# Altium footprint library Custom.PcbLib: 66 footprints (part 3 of 5)
Each footprint in its own frame and in the unit in brackets; x right, y up, seen from the top. Pads: shape width x height; smd on the part's side, far side on the other; paste and mask are expansions set on the pad; w line width, h text height; cw(c..) or ccw(c..) is an arc to the next point about the centre after c.
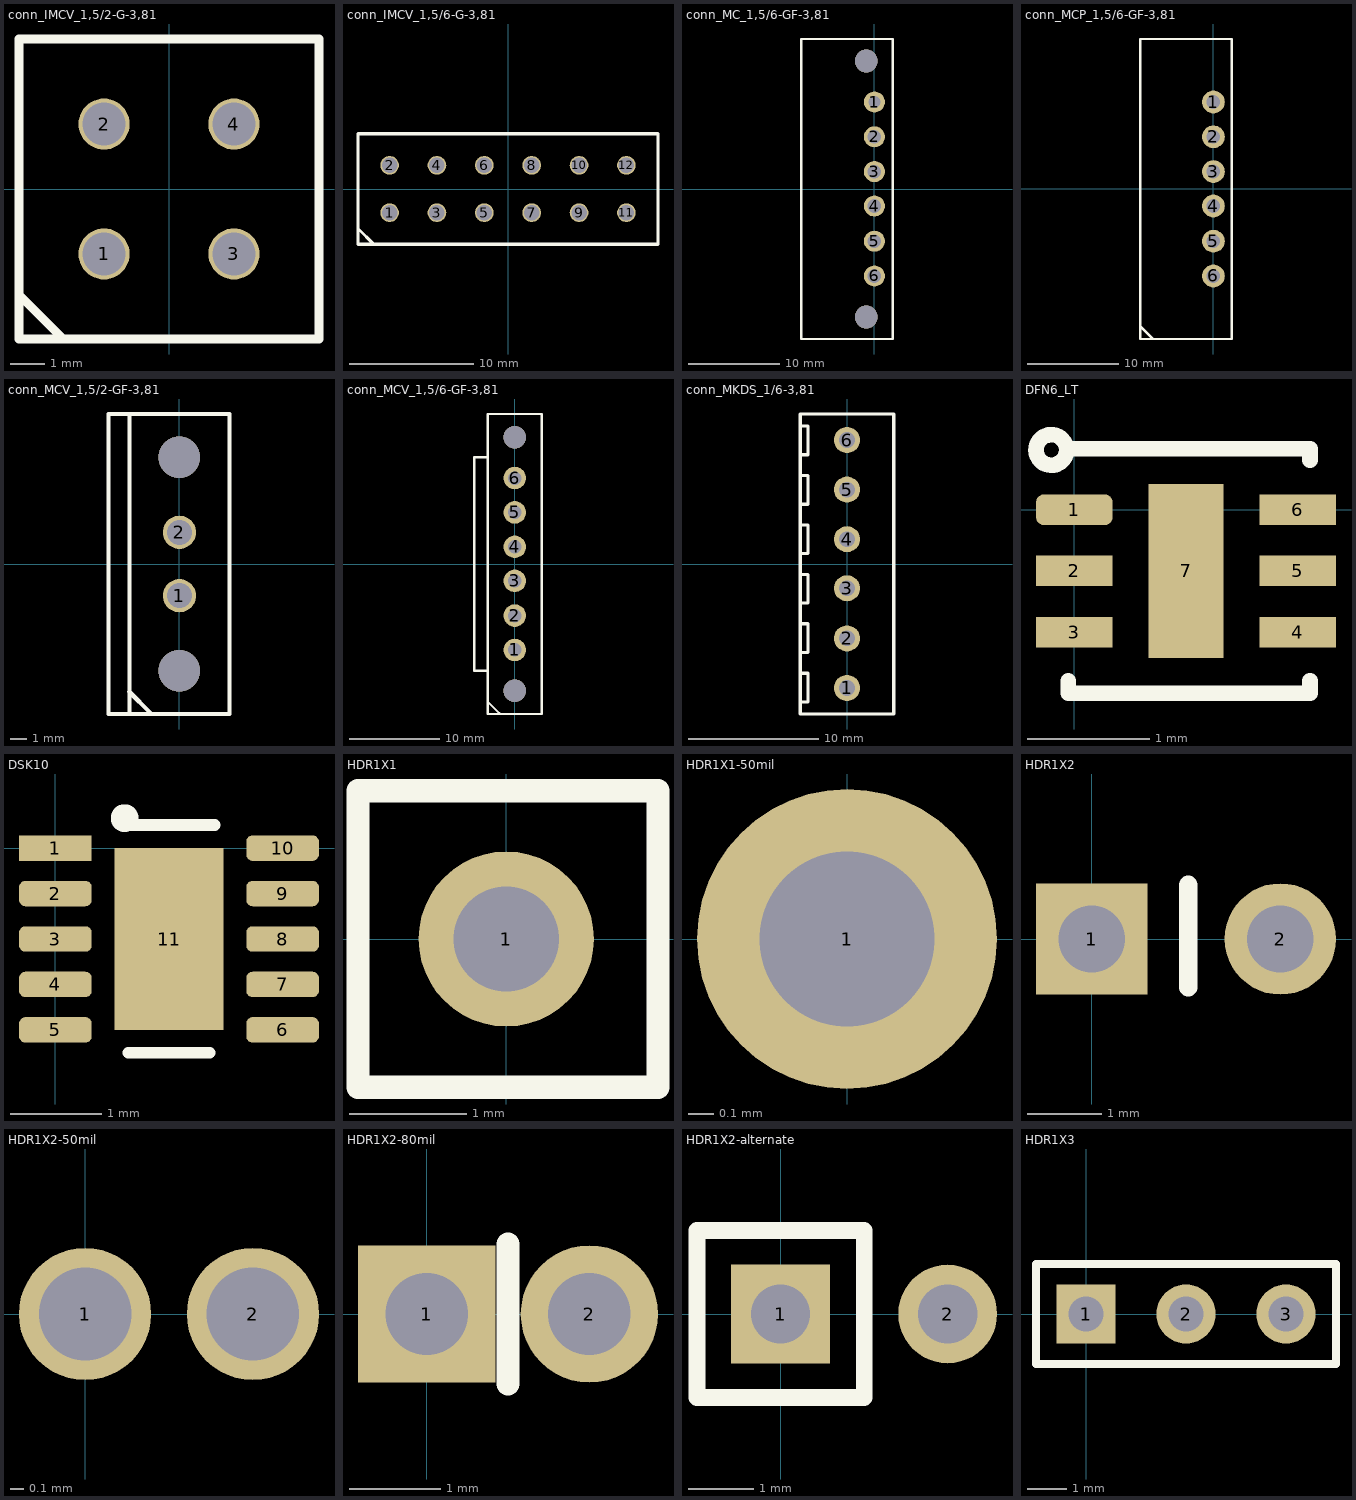
[diagram p2: the footprints below, top view; thin cyan lines are the x and y axes]

## conn_IMCV_1,5/2-G-3,81 [mm] "Phoenix Contact PCB connector, 2 pos no tab, 3.81mm pitch, (1875425)"
pads (4):
  round 1.5 hole 1.25: 1(-1.905,-1.905) 2(-1.905,1.905) 3(1.905,-1.905) 4(1.905,1.905)
Top Overlay:
  lines w0.254: -4.37,-3.13 -3.1,-4.4 ; -4.4,-4.4 4.4,-4.4 4.4,4.4 -4.4,4.4 -4.4,-4.4
3D body: height 7, standoff 0, extent -4.4,-4.4 4.4,4.4

## conn_IMCV_1,5/6-G-3,81 [mm] "Phoenix Contact PCB connector, 6 pos no tab, 3.81mm pitch, (1875467)"
height 14.5
pads (12):
  round 1.5 hole 1.25: 1(-9.525,-1.905) 2(-9.525,1.905) 3(-5.715,-1.905) 4(-5.715,1.905) 5(-1.905,-1.905) 6(-1.905,1.905) 7(1.905,-1.905) 8(1.905,1.905) 9(5.715,-1.905) 10(5.715,1.905) 11(9.525,-1.905) 12(9.525,1.905)
Top Overlay:
  lines w0.254: -12.065,-3.175 -10.795,-4.445 ; -12.065,-4.445 12.065,-4.445 12.065,4.445 -12.065,4.445 -12.065,-4.445
3D body: height 7, standoff 0, extent -12.065,-4.445 12.065,4.445

## conn_MC_1,5/6-GF-3,81 [mm] "Phoenix Contact PCB connector, 6  pos w/tab, 3.81mm pitch, 90 degrees, screw attach"
pads (6):
  round 2.3 hole 1.3: 1(0,9.525)
  round 2.3 hole 1.5: 2(0,5.715) 3(0,1.905) 4(0,-1.865) 5(0,-5.715) 6(0,-9.525)
via -0.9,-14.025 diameter 2.5 hole 2.5
via -0.9,14.025 diameter 2.5 hole 2.5
Top Overlay:
  lines w0.254: -8,-16.425 -8,16.425 2,16.425 2,-16.425 -8,-16.425
3D body: height 6.9, standoff 0, extent -8,-16.4 2,16.4

## conn_MCP_1,5/6-GF-3,81 [mm] "Phoenix Contact PCB connector, 6  pos w/tab, 3.81mm pitch, 90 degrees"
pads (6):
  round 2.5 hole 1.5: 1(0,9.525) 2(0,5.715) 3(0,1.905) 4(0,-1.865) 5(0,-5.715) 6(0,-9.525)
Top Overlay:
  lines w0.254: -7.985,-15.07 -6.628,-16.428 ; -8,-16.425 2,-16.425 2,16.425 -8,16.425 -8,-16.425
3D body: height 6.9, standoff 0, extent -8,-16.4 2,16.4

## conn_MCV_1,5/2-GF-3,81 [mm] "Phoenix Contact PCB connector, 2 pos w/tab, 3.81mm pitch (1830596)"
pads (2):
  round 2 hole 1.5: 1(0,-1.905) 2(0,1.905)
via 0,6.405 diameter 2.5 hole 2.5
via 0,-6.405 diameter 2.5 hole 2.5
Top Overlay:
  lines w0.254: -3.01,-7.67 -1.74,-8.94 ; -3,-9.005 -3,9.005 ; -4.25,-9.005 3,-9.005 3,9.005 -4.25,9.005 -4.25,-9.005
3D body: height 9.2, standoff 0, extent -4.2,-9 3,9

## conn_MCV_1,5/6-GF-3,81 [mm] "Phoenix Contact PCB connector, 6  pos w/tab, 3.81mm pitch, screw attach"
pads (6):
  round 2.5 hole 1.5: 1(0,-9.525) 2(0,-5.715) 3(0,-1.865) 4(0,1.905) 5(0,5.715) 6(0,9.525)
via 0,14.025 diameter 2.5 hole 2.5
via 0,-14.025 diameter 2.5 hole 2.5
Top Overlay:
  lines w0.254: -4.5,-11.823 -3,-11.823 ; -4.5,-11.8 -4.5,11.8 ; -4.5,11.823 -3,11.823 ; -2.985,-15.27 -1.715,-16.54 ; -3,-16.623 -3,16.623 3,16.623 3,-16.623 -3,-16.623
3D body: height 9.2, standoff 0, extent -3,-16.6 3,16.6

## conn_MKDS_1/6-3,81 [mm] "Phoenix Contact terminal block, 6 pos no tab, 3.81mm pitch (1727052)"
pads (6):
  round 2 hole 1.2: 1(0,-9.525) 2(0,-5.715) 3(0,-1.865) 4(0,1.905) 5(0,5.715) 6(0,9.525)
Top Overlay:
  lines w0.254: -3.6,-10.6 -3,-10.6 -3,-8.4 -3.6,-8.4 ; -3.6,-6.8 -3,-6.8 -3,-4.6 -3.6,-4.6 ; -3.6,-3 -3,-3 -3,-0.8 -3.6,-0.8 ; -3.6,0.8 -3,0.8 -3,3 -3.6,3 ; -3.6,4.6 -3,4.6 -3,6.8 -3.6,6.8 ; -3.6,8.4 -3,8.4 -3,10.6 -3.6,10.6 ; -3.6,-11.525 -3.6,11.525 3.6,11.525 3.6,-11.525 -3.6,-11.525
3D body: height 8.5, standoff 0, extent -3.6,-11.5 3.6,11.5

## DFN6_LT [mm]
pads (7):
  rrect50% 0.625x0.25 smd: 1(0,0)
  rect 0.625x0.25 smd: 2(0,-0.5) 3(0,-1) 4(1.825,-1) 5(1.825,-0.5) 6(1.825,0)
  rect 0.61x1.42 smd: 7(0.913,-0.5)
Top Overlay:
  lines w0.127: -0.112,0.39 cw(c-0.188,0.488) -0.1,0.4 ; -0.051,0.5 1.925,0.5 ; -0.05,-1.397 -0.05,-1.5 1.925,-1.5 1.925,-1.397 ; 1.925,0.406 1.925,0.475

## DSK10 [mm]
pads (11):
  rect 0.8x0.28 smd mask+0.07: 1(0,0)
  rrect50% 0.8x0.28 smd mask+0.07: 2(0,-0.5) 3(0,-1) 4(0,-1.5) 5(0,-2) 6(2.5,-2) 7(2.5,-1.5) 8(2.5,-1) 9(2.5,-0.5) 10(2.5,0)
  rect 1.2x2 smd mask+0.07: 11(1.25,-1)
Top Overlay:
  circle w0.254: c0.762,0.33 r0.025
  lines w0.127: 0.762,0.254 1.753,0.254 ; 0.8,-2.25 1.7,-2.25
3D body: height 0.5, standoff 0, extent 0,-2.2 2.5,0.2

## HDR1X1 [mm] "Connector; Header; 1 Position, 100mil pitch"
pads (1):
  round 1.5 hole 0.9: 1(0,0)
Top Overlay:
  lines w0.2: -1.27,-1.27 -1.27,1.27 1.3,1.27 1.3,-1.27 -1.27,-1.27

## HDR1X1-50mil [mm] "Connector; Header; 1 Position, 50mil pitch"
pads (1):
  round 1.2 hole 0.7: 1(0,0)

## HDR1X2 [mm] "Connector; Header; 2 Position, 100mil pitch"
pads (2):
  rect 1.5x1.5 hole 0.9: 1(0,0)
  round 1.5 hole 0.9: 2(2.54,0)
Top Overlay:
  lines w0.254: 1.3,-0.65 1.3,0.725

## HDR1X2-50mil [mm] "Connector; Header; 2 Position, 50mil pitch"
pads (2):
  round 1 hole 0.7: 1(0,0) 2(1.27,0)

## HDR1X2-80mil [mm] "Connector; Header; 2 Position, 100mil pitch"
pads (2):
  rect 1.5x1.5 hole 0.9: 1(0,0)
  round 1.5 hole 0.9: 2(1.778,0)
Top Overlay:
  lines w0.254: 0.889,-0.762 0.889,0.762

## HDR1X2-alternate [mm] "Connector; Header; 2 Position, 100mil pitch"
pads (2):
  rect 1.5x1.5 hole 0.9: 1(0,0)
  round 1.5 hole 0.9: 2(2.54,0)
Top Overlay:
  lines w0.254: -1.27,-1.27 -1.27,1.27 1.27,1.27 1.27,-1.27 -1.27,-1.27

## HDR1X3 [mm] "Connector; Header; 3 Position, 100mil pitch"
pads (3):
  rect 1.5x1.5 hole 0.9: 1(0,0)
  round 1.5 hole 0.9: 2(2.54,0) 3(5.08,0)
Top Overlay:
  lines w0.2: -1.27,-1.27 -1.27,1.27 6.35,1.27 6.35,-1.27 -1.27,-1.27